# EAGLE library part RFM69_MINIMAL (library Livolo_EU_2Gang_1way)
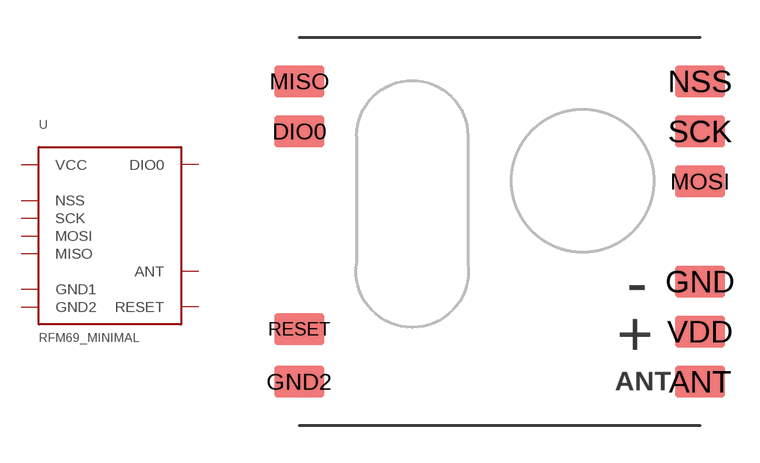
[diagram p2: symbol with the pads of RFM69CW_MINIMAL; footprint RFM69CW_MINIMAL]

Designator prefix U

## RFM69_MINIMAL  [RFM69CW_MINIMAL]
ANT  ANT  pas
DIO0  DIO0  oc
GND  GND1  pwr
GND2  GND2  pwr
MISO  MISO  out
MOSI  MOSI  in
NSS  NSS  in
RESET  RESET
SCK  SCK  in
VDD  VCC  pwr

## Footprint RFM69CW_MINIMAL (pad centres in mm)
smd 2 x 1.27: ANT 8,-6; DIO0 -8,4; GND 8,-2; GND2 -8.002,-6; MISO -8,6; MOSI 8,2; NSS 8,6; RESET -8.002,-3.905; SCK 8,4; VDD 8,-4